# EAGLE library part 1.44LCD (library ILI9163 2016 144x144 LCD)
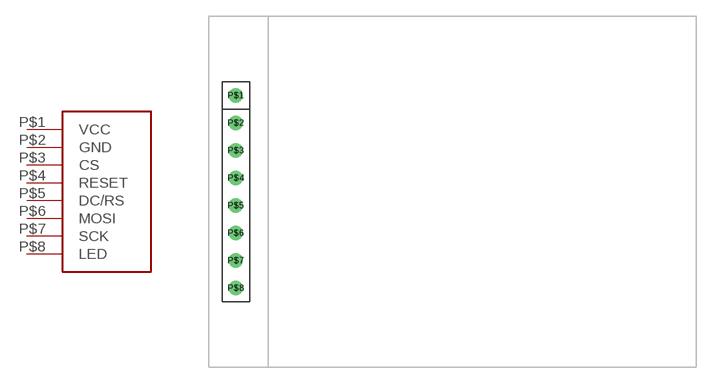
[diagram p0: symbol with the pads of 1.44INCHLCD; footprint 1.44INCHLCD]

Designator prefix -

## 1.44LCD  [1.44INCHLCD]
P$1  VCC
P$2  GND
P$3  CS
P$4  RESET
P$5  DC/RS
P$6  MOSI
P$7  SCK
P$8  LED

## Footprint 1.44INCHLCD (pad centres in mm)
drill 0.8: P$1 0,0; P$2 0,-2.54; P$3 0,-5.08; P$4 0,-7.62; P$5 0,-10.16; P$6 0,-12.7; P$7 0,-15.24; P$8 0,-17.78